# EAGLE library part K-HEADER-MALE-1X11- (library elpp-v1.1)
PIN HEADER
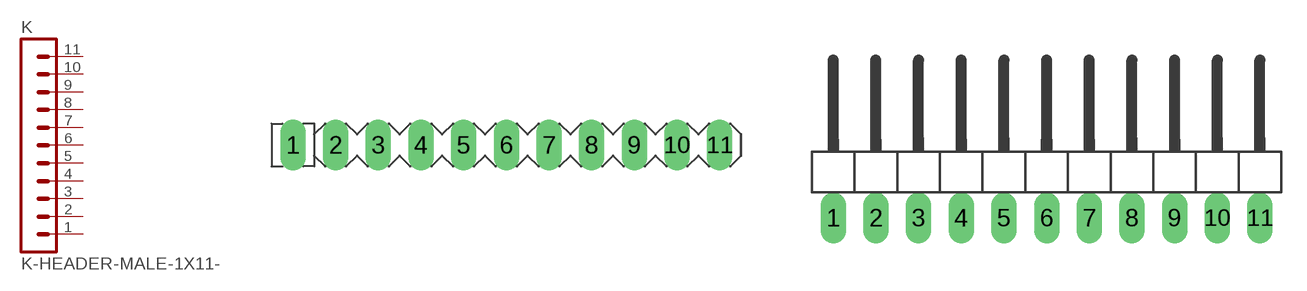
[diagram p12: symbol with the pads of EPP-SIL-M-11-WAY; footprints EPP-SIL-M-11-WAY, EPP-SIL-M-11-WAY-90DEG]

Designator prefix K

## K-HEADER-MALE-1X11-V (FARNELL: 1098454; RS: 6812058)  [EPP-SIL-M-11-WAY]
1  1  pas
2  2  pas
3  3  pas
4  4  pas
5  5  pas
6  6  pas
7  7  pas
8  8  pas
9  9  pas
10  10  pas
11  11  pas

## K-HEADER-MALE-1X11-H (FARNELL: 1098476; RS: 6812060)  [EPP-SIL-M-11-WAY-90DEG]
Pads as for EPP-SIL-M-11-WAY

## Footprint EPP-SIL-M-11-WAY (pad centres in mm)
PIN HEADER, 11-way
drill 1 long: 1 -5.08,0; 2 -2.54,0; 3 0,0; 4 2.54,0; 5 5.08,0; 6 7.62,0; 7 10.16,0; 8 12.7,0; 9 15.24,0; 10 17.78,0; 11 20.32,0

## Footprint EPP-SIL-M-11-WAY-90DEG (pad centres in mm)
PIN HEADER, 1 row, 90 degrees
drill 1 long: 1 -12.7,0; 2 -10.16,0; 3 -7.62,0; 4 -5.08,0; 5 -2.54,0; 6 0,0; 7 2.54,0; 8 5.08,0; 9 7.62,0; 10 10.16,0; 11 12.7,0